# Altium footprint library LTC6820.PcbLib: 3 footprints
Each footprint in its own frame and in the unit in brackets; x right, y up, seen from the top. Pads: shape width x height; smd on the part's side, far side on the other; paste and mask are expansions set on the pad; w line width, h text height; cw(c..) or ccw(c..) is an arc to the next point about the centre after c.
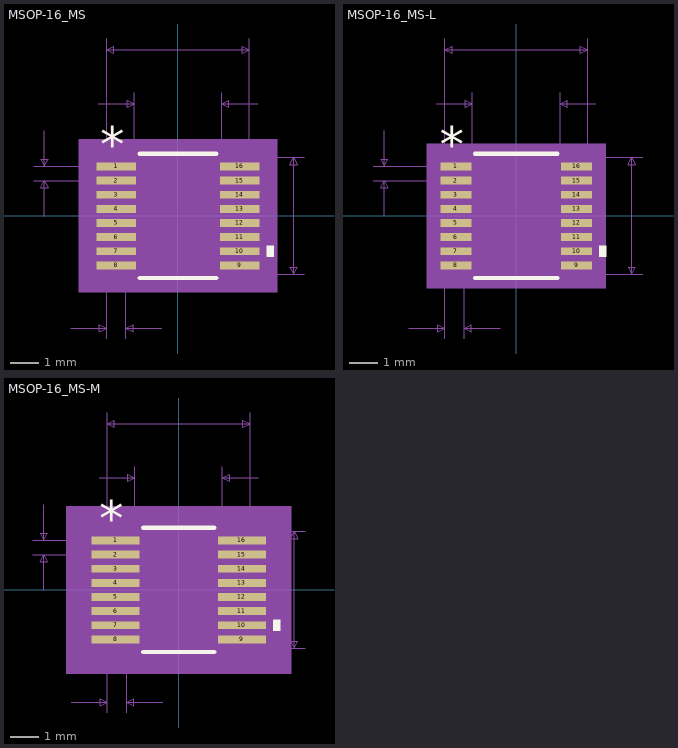
[diagram p0: the footprints below, top view; thin cyan lines are the x and y axes]

## MSOP-16_MS [mil]
pads (16):
  rect 55x11 smd: 1(-86,68.95) 2(-86,49.25) 3(-86,29.55) 4(-86,9.85) 5(-86,-9.85) 6(-86,-29.55) 7(-86,-49.25) 8(-86,-68.95) 9(86,-68.95) 10(86,-49.25) 11(86,-29.55) 12(86,-9.85) 13(86,9.85) 14(86,29.55) 15(86,49.25) 16(86,68.95)
Top Overlay:
  region: 123.5,-41.75 133.5,-41.75 133.5,-56.75 123.5,-56.75
  lines w6: -53.36,-86.5 53.36,-86.5 ; -53.36,86.5 53.36,86.5
  text "*" at -108.5,74.95 h50
Mechanical 5:
  region: 138.5,-106.5 -138.5,-106.5 -138.5,106.5 138.5,106.5
Mechanical 7:
  lines w1: -201,49.25 -86,49.25 ; -201,68.95 -86,68.95 ; -186,-0.75 -186,49.25 ; -186,118.95 -186,68.95 ; -149.5,-156.5 -99.5,-156.5 ; -111,156.5 -61,156.5 ; -99.5,-171.5 -99.5,0 -99.5,246.5 ; -72.5,-171.5 -72.5,0 ; -61,0 -61,171.5 ; -22.5,-156.5 -72.5,-156.5 ; 0,-81.5 176,-81.5 ; 0,81.5 176,81.5 ; 61,0 61,171.5 ; 99.5,0 99.5,246.5 ; 111,156.5 61,156.5 ; -186,49.25 -181,39.25 -191,39.25 -186,49.25 ; -186,68.95 -181,78.95 -191,78.95 -186,68.95 ; -99.5,-156.5 -109.5,-161.5 -109.5,-151.5 -99.5,-156.5 ; -99.5,231.5 -89.5,226.5 -89.5,236.5 -99.5,231.5 ; -99.5,231.5 99.5,231.5 ; -72.5,-156.5 -62.5,-161.5 -62.5,-151.5 -72.5,-156.5 ; -61,156.5 -71,151.5 -71,161.5 -61,156.5 ; 61,156.5 71,151.5 71,161.5 61,156.5 ; 99.5,231.5 89.5,226.5 89.5,236.5 99.5,231.5 ; 161,-81.5 166,-71.5 156,-71.5 161,-81.5 ; 161,-81.5 161,81.5 ; 161,81.5 166,71.5 156,71.5 161,81.5
  text "0.027in/0.686mm" at -179.75,-201.5 h25
  text "0.02in/0.5mm" at -356,46.6 h25
  text "0.163in/4.14mm" at 181,-12.5 h25
  text "0.199in/5.055mm" at -93.75,251.5 h25
  text "0.122in/3.099mm" at -93.75,176.5 h25
  text "Alt 2 Padstyle: OX90Y60D30P" at -337.5,-581.5 h50
  text "Alt 1 Padstyle: OX60Y90D30P" at -337.5,-521.5 h50
  text "Pin One Padstyle: RX55Y11D0T" at -350,-341.5 h50
  text "Default Padstyle: RX55Y11D0T" at -350,-281.5 h50
Mechanical 13:
  lines w0: -12,81.5 ccw(c0,81.5) 12,81.5
  lines w1: -99.5,-74.45 -61,-74.45 -61,-63.45 -99.5,-63.45 -99.5,-74.45 ; -99.5,-54.75 -61,-54.75 -61,-43.75 -99.5,-43.75 -99.5,-54.75 ; -99.5,-35.05 -61,-35.05 -61,-24.05 -99.5,-24.05 -99.5,-35.05 ; -99.5,-15.35 -61,-15.35 -61,-4.35 -99.5,-4.35 -99.5,-15.35 ; -99.5,4.35 -61,4.35 -61,15.35 -99.5,15.35 -99.5,4.35 ; -99.5,24.05 -61,24.05 -61,35.05 -99.5,35.05 -99.5,24.05 ; -99.5,43.75 -61,43.75 -61,54.75 -99.5,54.75 -99.5,43.75 ; -99.5,63.45 -61,63.45 -61,74.45 -99.5,74.45 -99.5,63.45 ; -61,-81.5 -61,81.5 61,81.5 61,-81.5 -61,-81.5 ; 61,-74.45 99.5,-74.45 99.5,-63.45 61,-63.45 61,-74.45 ; 61,-54.75 99.5,-54.75 99.5,-43.75 61,-43.75 61,-54.75 ; 61,-35.05 99.5,-35.05 99.5,-24.05 61,-24.05 61,-35.05 ; 61,-15.35 99.5,-15.35 99.5,-4.35 61,-4.35 61,-15.35 ; 61,4.35 99.5,4.35 99.5,15.35 61,15.35 61,4.35 ; 61,24.05 99.5,24.05 99.5,35.05 61,35.05 61,24.05 ; 61,43.75 99.5,43.75 99.5,54.75 61,54.75 61,43.75 ; 61,63.45 99.5,63.45 99.5,74.45 61,74.45 61,63.45
  text "*" at -58.5,28.5 h50
Mechanical 15:
  region: -71,-80.8 -123.5,-80.8 -123.5,80.8 -71,80.8 -71,91.5 71,91.5 71,80.8 123.5,80.8 123.5,-80.8 71,-80.8 71,-91.5 -71,-91.5
  lines w6: -123.5,-80.8 -71,-80.8 -71,-91.5 71,-91.5 71,-80.8 123.5,-80.8 123.5,80.8 71,80.8 71,91.5 -71,91.5 -71,80.8 -123.5,80.8 -123.5,-80.8
3D body "MSOP-16_MS.step": height 43.11, standoff 0, extent -99.48,-81.49 99.5,81.51
3D body: height 10, standoff 0, extent 0,0 10,10

## MSOP-16_MS-L [mil]
pads (16):
  rect 43x11 smd: 1(-84,68.95) 2(-84,49.25) 3(-84,29.55) 4(-84,9.85) 5(-84,-9.85) 6(-84,-29.55) 7(-84,-49.25) 8(-84,-68.95) 9(84,-68.95) 10(84,-49.25) 11(84,-29.55) 12(84,-9.85) 13(84,9.85) 14(84,29.55) 15(84,49.25) 16(84,68.95)
Top Overlay:
  region: 115.5,-41.75 125.5,-41.75 125.5,-56.75 115.5,-56.75
  lines w6: -57.36,-86.5 57.36,-86.5 ; -57.36,86.5 57.36,86.5
  text "*" at -106.5,74.95 h50
Mechanical 5:
  region: 124.5,-100.5 -124.5,-100.5 -124.5,100.5 124.5,100.5
Mechanical 7:
  lines w1: -199,49.25 -84,49.25 ; -199,68.95 -84,68.95 ; -184,-0.75 -184,49.25 ; -184,118.95 -184,68.95 ; -149.5,-156.5 -99.5,-156.5 ; -111,156.5 -61,156.5 ; -99.5,-171.5 -99.5,0 -99.5,246.5 ; -72.5,-171.5 -72.5,0 ; -61,0 -61,171.5 ; -22.5,-156.5 -72.5,-156.5 ; 0,-81.5 176,-81.5 ; 0,81.5 176,81.5 ; 61,0 61,171.5 ; 99.5,0 99.5,246.5 ; 111,156.5 61,156.5 ; -184,49.25 -189,39.25 -179,39.25 -184,49.25 ; -184,68.95 -189,78.95 -179,78.95 -184,68.95 ; -99.5,-156.5 -109.5,-151.5 -109.5,-161.5 -99.5,-156.5 ; -99.5,231.5 99.5,231.5 ; -99.5,231.5 -89.5,236.5 -89.5,226.5 -99.5,231.5 ; -72.5,-156.5 -62.5,-151.5 -62.5,-161.5 -72.5,-156.5 ; -61,156.5 -71,161.5 -71,151.5 -61,156.5 ; 61,156.5 71,161.5 71,151.5 61,156.5 ; 99.5,231.5 89.5,236.5 89.5,226.5 99.5,231.5 ; 161,-81.5 161,81.5 ; 161,-81.5 156,-71.5 166,-71.5 161,-81.5 ; 161,81.5 156,71.5 166,71.5 161,81.5
  text "Default Padstyle: RX43Y11D0T" at -350,-281.5 h50
  text "Pin One Padstyle: RX43Y11D0T" at -350,-341.5 h50
  text "Alt 1 Padstyle: OX60Y90D30P" at -337.5,-521.5 h50
  text "Alt 2 Padstyle: OX90Y60D30P" at -337.5,-581.5 h50
  text "0.122in/3.099mm" at -93.75,176.5 h25
  text "0.199in/5.055mm" at -93.75,251.5 h25
  text "0.163in/4.14mm" at 181,-12.5 h25
  text "0.02in/0.5mm" at -354,46.6 h25
  text "0.027in/0.686mm" at -179.75,-201.5 h25
Mechanical 13:
  lines w0: -12,81.5 ccw(c0,81.5) 12,81.5
  lines w1: -99.5,-74.45 -99.5,-63.45 -61,-63.45 -61,-74.45 -99.5,-74.45 ; -99.5,-54.75 -99.5,-43.75 -61,-43.75 -61,-54.75 -99.5,-54.75 ; -99.5,-35.05 -99.5,-24.05 -61,-24.05 -61,-35.05 -99.5,-35.05 ; -99.5,-15.35 -99.5,-4.35 -61,-4.35 -61,-15.35 -99.5,-15.35 ; -99.5,4.35 -99.5,15.35 -61,15.35 -61,4.35 -99.5,4.35 ; -99.5,24.05 -99.5,35.05 -61,35.05 -61,24.05 -99.5,24.05 ; -99.5,43.75 -99.5,54.75 -61,54.75 -61,43.75 -99.5,43.75 ; -99.5,63.45 -99.5,74.45 -61,74.45 -61,63.45 -99.5,63.45 ; -61,-81.5 61,-81.5 61,81.5 -61,81.5 -61,-81.5 ; 61,-74.45 61,-63.45 99.5,-63.45 99.5,-74.45 61,-74.45 ; 61,-54.75 61,-43.75 99.5,-43.75 99.5,-54.75 61,-54.75 ; 61,-35.05 61,-24.05 99.5,-24.05 99.5,-35.05 61,-35.05 ; 61,-15.35 61,-4.35 99.5,-4.35 99.5,-15.35 61,-15.35 ; 61,4.35 61,15.35 99.5,15.35 99.5,4.35 61,4.35 ; 61,24.05 61,35.05 99.5,35.05 99.5,24.05 61,24.05 ; 61,43.75 61,54.75 99.5,54.75 99.5,43.75 61,43.75 ; 61,63.45 61,74.45 99.5,74.45 99.5,63.45 61,63.45
  text "*" at -58.5,28.5 h50
Mechanical 15:
  region: -65,-79.6 -109.5,-79.6 -109.5,79.6 -65,79.6 -65,85.5 65,85.5 65,79.6 109.5,79.6 109.5,-79.6 65,-79.6 65,-85.5 -65,-85.5
  lines w6: -109.5,-79.6 -109.5,79.6 -65,79.6 -65,85.5 65,85.5 65,79.6 109.5,79.6 109.5,-79.6 65,-79.6 65,-85.5 -65,-85.5 -65,-79.6 -109.5,-79.6
3D body: height 10, standoff 0, extent 0,0 10,10

## MSOP-16_MS-M [mil]
pads (16):
  rect 67x11 smd: 1(-88,68.95) 2(-88,49.25) 3(-88,29.55) 4(-88,9.85) 5(-88,-9.85) 6(-88,-29.55) 7(-88,-49.25) 8(-88,-68.95) 9(88,-68.95) 10(88,-49.25) 11(88,-29.55) 12(88,-9.85) 13(88,9.85) 14(88,29.55) 15(88,49.25) 16(88,68.95)
Top Overlay:
  region: 131.5,-41.75 141.5,-41.75 141.5,-56.75 131.5,-56.75
  lines w6: -49.36,-86.5 49.36,-86.5 ; -49.36,86.5 49.36,86.5
  text "*" at -110.5,74.95 h50
Mechanical 5:
  region: 156.5,-116.5 -156.5,-116.5 -156.5,116.5 156.5,116.5
Mechanical 7:
  lines w1: -203,49.25 -88,49.25 ; -203,68.95 -88,68.95 ; -188,-0.75 -188,49.25 ; -188,118.95 -188,68.95 ; -149.5,-156.5 -99.5,-156.5 ; -111,156.5 -61,156.5 ; -99.5,-171.5 -99.5,0 -99.5,246.5 ; -72.5,-171.5 -72.5,0 ; -61,0 -61,171.5 ; -22.5,-156.5 -72.5,-156.5 ; 0,-81.5 176,-81.5 ; 0,81.5 176,81.5 ; 61,0 61,171.5 ; 99.5,0 99.5,246.5 ; 111,156.5 61,156.5 ; -188,49.25 -193,39.25 -183,39.25 -188,49.25 ; -188,68.95 -193,78.95 -183,78.95 -188,68.95 ; -99.5,-156.5 -109.5,-151.5 -109.5,-161.5 -99.5,-156.5 ; -99.5,231.5 99.5,231.5 ; -99.5,231.5 -89.5,236.5 -89.5,226.5 -99.5,231.5 ; -72.5,-156.5 -62.5,-151.5 -62.5,-161.5 -72.5,-156.5 ; -61,156.5 -71,161.5 -71,151.5 -61,156.5 ; 61,156.5 71,161.5 71,151.5 61,156.5 ; 99.5,231.5 89.5,236.5 89.5,226.5 99.5,231.5 ; 161,-81.5 161,81.5 ; 161,-81.5 156,-71.5 166,-71.5 161,-81.5 ; 161,81.5 156,71.5 166,71.5 161,81.5
  text "Default Padstyle: RX67Y11D0T" at -350,-281.5 h50
  text "Pin One Padstyle: RX67Y11D0T" at -350,-341.5 h50
  text "Alt 1 Padstyle: OX60Y90D30P" at -337.5,-521.5 h50
  text "Alt 2 Padstyle: OX90Y60D30P" at -337.5,-581.5 h50
  text "0.122in/3.099mm" at -93.75,176.5 h25
  text "0.199in/5.055mm" at -93.75,251.5 h25
  text "0.163in/4.14mm" at 181,-12.5 h25
  text "0.02in/0.5mm" at -358,46.6 h25
  text "0.027in/0.686mm" at -179.75,-201.5 h25
Mechanical 13:
  lines w0: -12,81.5 ccw(c0,81.5) 12,81.5
  lines w1: -99.5,-74.45 -99.5,-63.45 -61,-63.45 -61,-74.45 -99.5,-74.45 ; -99.5,-54.75 -99.5,-43.75 -61,-43.75 -61,-54.75 -99.5,-54.75 ; -99.5,-35.05 -99.5,-24.05 -61,-24.05 -61,-35.05 -99.5,-35.05 ; -99.5,-15.35 -99.5,-4.35 -61,-4.35 -61,-15.35 -99.5,-15.35 ; -99.5,4.35 -99.5,15.35 -61,15.35 -61,4.35 -99.5,4.35 ; -99.5,24.05 -99.5,35.05 -61,35.05 -61,24.05 -99.5,24.05 ; -99.5,43.75 -99.5,54.75 -61,54.75 -61,43.75 -99.5,43.75 ; -99.5,63.45 -99.5,74.45 -61,74.45 -61,63.45 -99.5,63.45 ; -61,-81.5 61,-81.5 61,81.5 -61,81.5 -61,-81.5 ; 61,-74.45 61,-63.45 99.5,-63.45 99.5,-74.45 61,-74.45 ; 61,-54.75 61,-43.75 99.5,-43.75 99.5,-54.75 61,-54.75 ; 61,-35.05 61,-24.05 99.5,-24.05 99.5,-35.05 61,-35.05 ; 61,-15.35 61,-4.35 99.5,-4.35 99.5,-15.35 61,-15.35 ; 61,4.35 61,15.35 99.5,15.35 99.5,4.35 61,4.35 ; 61,24.05 61,35.05 99.5,35.05 99.5,24.05 61,24.05 ; 61,43.75 61,54.75 99.5,54.75 99.5,43.75 61,43.75 ; 61,63.45 61,74.45 99.5,74.45 99.5,63.45 61,63.45
  text "*" at -58.5,28.5 h50
Mechanical 15:
  region: -81,-82.8 -141.5,-82.8 -141.5,82.8 -81,82.8 -81,101.5 81,101.5 81,82.8 141.5,82.8 141.5,-82.8 81,-82.8 81,-101.5 -81,-101.5
  lines w6: -141.5,-82.8 -141.5,82.8 -81,82.8 -81,101.5 81,101.5 81,82.8 141.5,82.8 141.5,-82.8 81,-82.8 81,-101.5 -81,-101.5 -81,-82.8 -141.5,-82.8
3D body: height 10, standoff 0, extent 0,0 10,10